# EAGLE library part ADS7843 (library gfe-hand-made)
ADS7843 / AD7843 / XPT2046 Touch controller IC
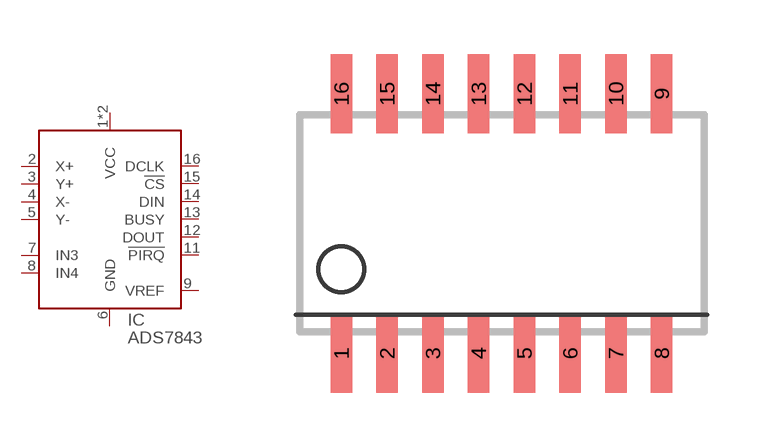
[diagram p2: symbol with the pads of SOP16; footprint SOP16]

Designator prefix IC

## ADS7843  [SOP16]
1  VCC
2  X+
3  Y+
4  X-
5  Y-
6  GND
7  IN3
8  IN4
9  VREF
10  VCC
11  !PIRQ
12  DOUT
13  BUSY
14  DIN
15  !CS
16  DCLK

## Footprint SOP16 (pad centres in mm)
SMALL OUTLINE PACKAGE
smd 0.6 x 2.2: 1 -4.445,-3.6; 2 -3.175,-3.6; 3 -1.905,-3.6; 4 -0.635,-3.6; 5 0.635,-3.6; 6 1.905,-3.6; 7 3.175,-3.6; 8 4.445,-3.6; 9 4.445,3.6; 10 3.175,3.6; 11 1.905,3.6; 12 0.635,3.6; 13 -0.635,3.6; 14 -1.905,3.6; 15 -3.175,3.6; 16 -4.445,3.6